# Altium footprint library LORA.PcbLib: 21 footprints (part 2 of 2)
Each footprint in its own frame and in the unit in brackets; x right, y up, seen from the top. Pads: shape width x height; smd on the part's side, far side on the other; paste and mask are expansions set on the pad; w line width, h text height; cw(c..) or ccw(c..) is an arc to the next point about the centre after c.
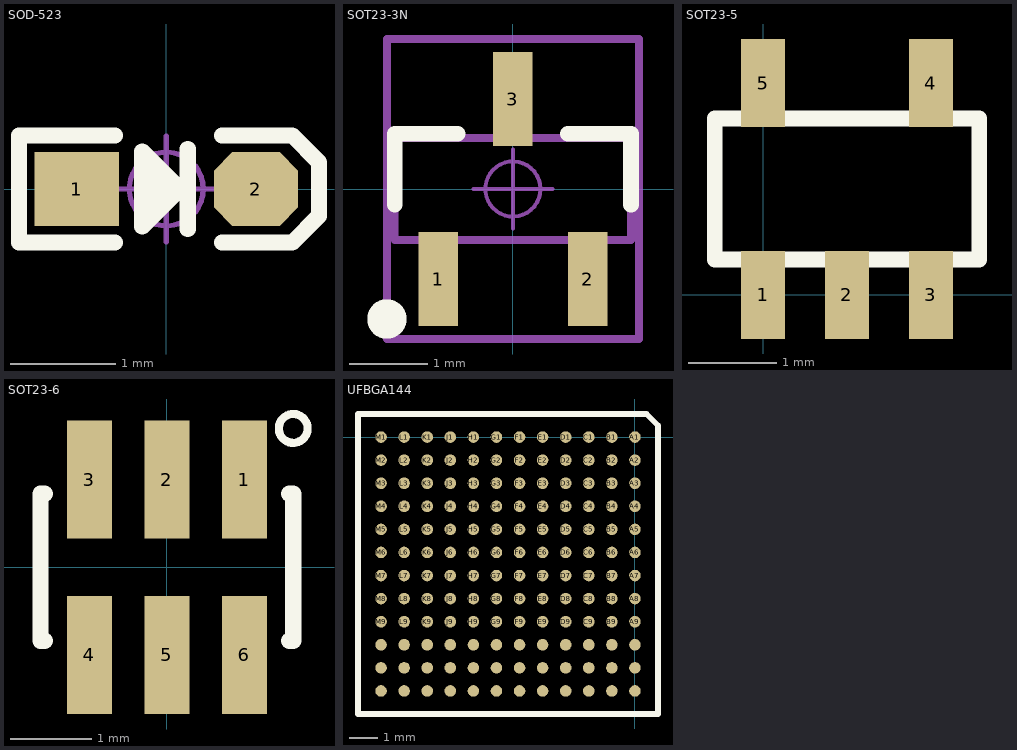
[diagram p1: the footprints below, top view; thin cyan lines are the x and y axes]

## SOD-523 [mm] "1.2x0.8X0.6mm（长宽高，不包括引脚）"
pads (2):
  rect 0.8x0.7 smd: 1(-0.85,0)
  oct 0.8x0.7 smd: 2(0.85,0)
Top Overlay:
  rectangle: -0.178,-0.177 0,0.178
  lines w0.152: -0.488,-0.508 -1.397,-0.508 -1.397,0.508 -0.488,0.508 ; -0.127,0 0.127,0 ; 0.203,-0.381 0.203,0.381 ; 0.528,-0.508 1.194,-0.508 1.448,-0.254 1.448,0.254 1.194,0.508 0.528,0.508 ; 0.127,0 -0.229,0.356 -0.229,-0.356 0.127,0
Mechanical 15:
  circle w0.05: c0,0 r0.35
  lines w0.05: -0.5,0 0.5,0 ; 0,-0.5 0,0.5
3D body: height 0.65, standoff 0.05, extent -0.8,-0.4 0.8,0.4

## SOT23-3N [mm] "3x1.3x1mm(长宽高)"
height 1.1
pads (3):
  rect 0.5x1.2 smd: 1(-0.95,-1.143) 2(0.95,-1.143) 3(0,1.143)
Top Overlay:
  circle w0.25: c-1.6,-1.651 r0.125
  lines w0.2: -1.501,-0.2 -1.501,0.7 -0.701,0.7 ; 0.699,0.7 1.499,0.7 1.499,-0.2
Mechanical 13:
  lines w0.1: -1.5,-0.65 -1.5,0.65 1.5,0.65 1.5,-0.65 -1.5,-0.65
Mechanical 15:
  circle w0.05: c0,0 r0.35
  lines w0.05: -0.5,0 0.5,0 ; 0,-0.5 0,0.5
  lines w0.1: -1.6,-1.905 -1.6,1.905 1.6,1.905 1.6,-1.905 -1.6,-1.905
3D body: height 1.05, standoff 0, extent -1.5,-1.2 1.5,1.2

## SOT23-5 [mm]
pads (5):
  rect 0.5x1 smd: 1(0,0) 2(0.95,0) 3(1.9,0) 4(1.9,2.4) 5(0,2.4)
Top Overlay:
  lines w0.178: -0.55,0.4 -0.55,2 2.45,2 2.45,0.4 -0.55,0.4
3D body: height 1.09, standoff -0.01, extent -0.5,-0.201 2.399,2.599

## SOT23-6 [mm] "SOT-23/SC-74A; 5 Leads; Body 3.1 x 3 mm, inc. leads (LxW max)"
height 1.45
pads (6):
  rect 0.55x1.45 smd: 1(0.95,1.075) 2(0,1.075) 3(-0.95,1.075) 4(-0.95,-1.075) 5(0,-1.075) 6(0.95,-1.075)
Top Overlay:
  circle w0.1: c1.549,1.702 r0.177
  lines w0.2: -1.5,-0.9 -1.55,-0.9 -1.55,0.9 -1.5,0.9 ; 1.5,-0.9 1.55,-0.9 1.55,0.9 1.5,0.9
3D body: height 1, standoff 0, extent -1.435,-1.195 1.485,1.145

## UFBGA144 [mm]
pads (144):
  round 0.4 smd: A1(0,0) A2(0,-0.8) A3(0,-1.6) A4(0,-2.4) A5(0,-3.2) A6(0,-4) A7(0,-4.8) A8(0,-5.6) A9(0,-6.4) A10(0,-7.2) A11(0,-8) A12(0,-8.8) B1(-0.8,0) B2(-0.8,-0.8) B3(-0.8,-1.6) B4(-0.8,-2.4) B5(-0.8,-3.2) B6(-0.8,-4) B7(-0.8,-4.8) B8(-0.8,-5.6) B9(-0.8,-6.4) B10(-0.8,-7.2) B11(-0.8,-8) B12(-0.8,-8.8) C1(-1.6,0) C2(-1.6,-0.8) C3(-1.6,-1.6) C4(-1.6,-2.4) C5(-1.6,-3.2) C6(-1.6,-4) C7(-1.6,-4.8) C8(-1.6,-5.6) C9(-1.6,-6.4) C10(-1.6,-7.2) C11(-1.6,-8) C12(-1.6,-8.8) D1(-2.4,0) D2(-2.4,-0.8) D3(-2.4,-1.6) D4(-2.4,-2.4) D5(-2.4,-3.2) D6(-2.4,-4) D7(-2.4,-4.8) D8(-2.4,-5.6) D9(-2.4,-6.4) D10(-2.4,-7.2) D11(-2.4,-8) D12(-2.4,-8.8) E1(-3.2,0) E2(-3.2,-0.8) E3(-3.2,-1.6) E4(-3.2,-2.4) E5(-3.2,-3.2) E6(-3.2,-4) E7(-3.2,-4.8) E8(-3.2,-5.6) E9(-3.2,-6.4) E10(-3.2,-7.2) E11(-3.2,-8) E12(-3.2,-8.8) F1(-4,0) F2(-4,-0.8) F3(-4,-1.6) F4(-4,-2.4) F5(-4,-3.2) F6(-4,-4) F7(-4,-4.8) F8(-4,-5.6) F9(-4,-6.4) F10(-4,-7.2) F11(-4,-8) F12(-4,-8.8) G1(-4.8,0) G2(-4.8,-0.8) G3(-4.8,-1.6) G4(-4.8,-2.4) G5(-4.8,-3.2) G6(-4.8,-4) G7(-4.8,-4.8) G8(-4.8,-5.6) G9(-4.8,-6.4) G10(-4.8,-7.2) G11(-4.8,-8) G12(-4.8,-8.8) H1(-5.6,0) H2(-5.6,-0.8) H3(-5.6,-1.6) H4(-5.6,-2.4) H5(-5.6,-3.2) H6(-5.6,-4) H7(-5.6,-4.8) H8(-5.6,-5.6) H9(-5.6,-6.4) H10(-5.6,-7.2) H11(-5.6,-8) H12(-5.6,-8.8) J1(-6.4,0) J2(-6.4,-0.8) J3(-6.4,-1.6) J4(-6.4,-2.4) J5(-6.4,-3.2) J6(-6.4,-4) J7(-6.4,-4.8) J8(-6.4,-5.6) J9(-6.4,-6.4) J10(-6.4,-7.2) J11(-6.4,-8) J12(-6.4,-8.8) K1(-7.2,0) K2(-7.2,-0.8) K3(-7.2,-1.6) K4(-7.2,-2.4) K5(-7.2,-3.2) K6(-7.2,-4) K7(-7.2,-4.8) K8(-7.2,-5.6) K9(-7.2,-6.4) K10(-7.2,-7.2) K11(-7.2,-8) K12(-7.2,-8.8) L1(-8,0) L2(-8,-0.8) L3(-8,-1.6) L4(-8,-2.4) L5(-8,-3.2) L6(-8,-4) L7(-8,-4.8) L8(-8,-5.6) L9(-8,-6.4) L10(-8,-7.2) L11(-8,-8) L12(-8,-8.8) M1(-8.8,0) M2(-8.8,-0.8) M3(-8.8,-1.6) M4(-8.8,-2.4) M5(-8.8,-3.2) M6(-8.8,-4) M7(-8.8,-4.8) M8(-8.8,-5.6) M9(-8.8,-6.4) M10(-8.8,-7.2) M11(-8.8,-8) M12(-8.8,-8.8)
Top Overlay:
  lines w0.2: -9.6,-9.6 0.8,-9.6 0.8,0.4 0.4,0.8 -9.6,0.8 -9.6,-9.6
3D body: height 0.76, standoff 0, extent -9.271,-9.271 0.483,0.381